# Altium footprint library connectors.PcbLib: 23 footprints (part 2 of 2)
Each footprint in its own frame and in the unit in brackets; x right, y up, seen from the top. Pads: shape width x height; smd on the part's side, far side on the other; paste and mask are expansions set on the pad; w line width, h text height; cw(c..) or ccw(c..) is an arc to the next point about the centre after c.
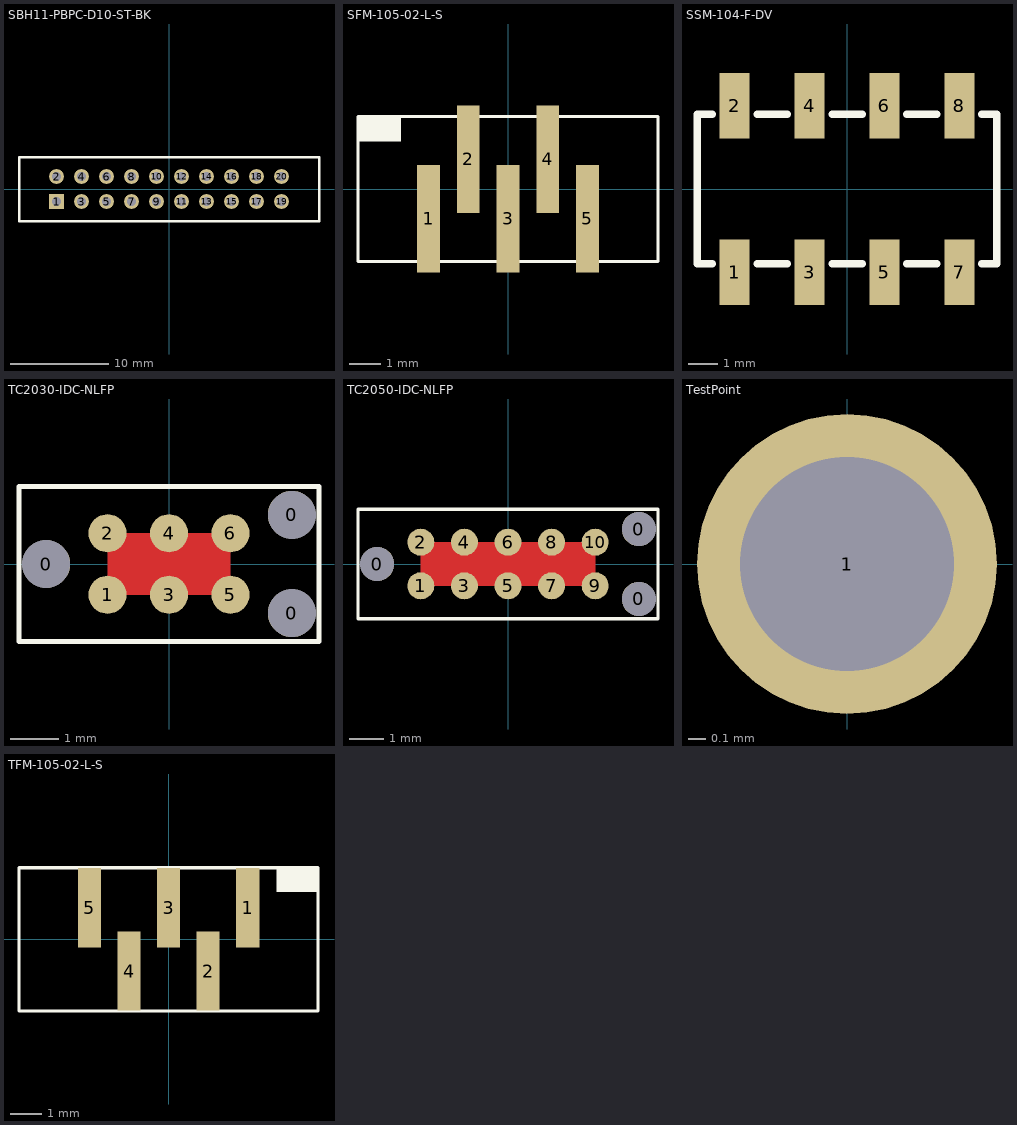
[diagram p1: the footprints below, top view; thin cyan lines are the x and y axes]

## SBH11-PBPC-D10-ST-BK [mm] "CONN HEADER 2.54MM 20POS"
pads (20):
  rect 1.5x1.5 hole 0.9: 1(-11.43,-1.27)
  round 1.5 hole 0.9: 2(-11.43,1.27) 3(-8.89,-1.27) 4(-8.89,1.27) 5(-6.35,-1.27) 6(-6.35,1.27) 7(-3.81,-1.27) 8(-3.81,1.27) 9(-1.27,-1.27) 10(-1.27,1.27) 11(1.27,-1.27) 12(1.27,1.27) 13(3.81,-1.27) 14(3.81,1.27) 15(6.35,-1.27) 16(6.35,1.27) 17(8.89,-1.27) 18(8.89,1.27) 19(11.43,-1.27) 20(11.43,1.27)
Top Overlay:
  lines w0.254: -15.24,-3.251 -15.24,3.251 15.24,3.251 15.24,-3.251 -15.24,-3.251
3D body: height 10.74, standoff 0, extent -15.24,-3.251 -14.859,3.251
3D body: height 10.74, standoff 0, extent 14.859,-3.251 15.24,3.251
3D body: height 10.74, standoff 0, extent 2.54,-3.251 15.24,-2.87
3D body: height 10.74, standoff 0, extent -15.24,-3.251 -2.54,-2.87
3D body: height 10.74, standoff 0, extent -15.24,2.87 15.24,3.251
3D body: height 10.11, standoff -3.2, extent 11.227,-1.473 11.633,-1.067
3D body: height 10.11, standoff -3.2, extent 11.227,1.067 11.633,1.473
3D body: height 10.11, standoff -3.2, extent 8.687,1.067 9.093,1.473
3D body: height 10.11, standoff -3.2, extent 8.687,-1.473 9.093,-1.067
3D body: height 10.11, standoff -3.2, extent 6.147,1.067 6.553,1.473
3D body: height 10.11, standoff -3.2, extent 6.147,-1.473 6.553,-1.067
3D body: height 2, standoff 0, extent -15.24,-3.251 15.24,3.251
3D body: height 10.11, standoff -3.2, extent 3.607,-1.473 4.013,-1.067
3D body: height 10.11, standoff -3.2, extent 3.607,1.067 4.013,1.473
3D body: height 10.11, standoff -3.2, extent 1.067,1.067 1.473,1.473
3D body: height 10.11, standoff -3.2, extent 1.067,-1.473 1.473,-1.067
3D body: height 10.11, standoff -3.2, extent -1.473,-1.473 -1.067,-1.067
3D body: height 10.11, standoff -3.2, extent -1.473,1.067 -1.067,1.473
3D body: height 10.11, standoff -3.2, extent -4.013,1.067 -3.607,1.473
3D body: height 10.11, standoff -3.2, extent -4.013,-1.473 -3.607,-1.067
3D body: height 10.11, standoff -3.2, extent -6.553,-1.473 -6.147,-1.067
3D body: height 10.11, standoff -3.2, extent -6.553,1.067 -6.147,1.473
3D body: height 10.11, standoff -3.2, extent -9.093,1.067 -8.687,1.473
3D body: height 10.11, standoff -3.2, extent -11.633,1.067 -11.227,1.473
3D body: height 10.11, standoff -3.2, extent -9.093,-1.473 -8.687,-1.067
3D body: height 10.11, standoff -3.2, extent -11.633,-1.473 -11.227,-1.067

## SFM-105-02-L-S [mm] "Samtec TFM, single row, 5 pos"
pads (5):
  rect 0.73x3.43 smd: 1(-2.54,-0.95) 2(-1.27,0.95) 3(0,-0.95) 4(1.27,0.95) 5(2.54,-0.95)
Top Overlay:
  rectangle: -4.8,1.524 -3.429,2.325
  lines w0.1: -4.8,-2.325 4.8,-2.325 4.8,2.325 -4.8,2.325 -4.8,-2.325
3D body: height 4.57, standoff 0.38, extent -3.375,0.9 -1.35,1.525
3D body: height 4.57, standoff 0.38, extent -3.375,-0.9 3.375,0.9
3D body: height 2.79, standoff 0, extent 3.375,-0.65 5.15,0.65
3D body: height 2.79, standoff 0, extent -5.15,-0.65 -3.375,0.65

## SSM-104-F-DV [mm] "Samtec 100 mil 2x4 female connector"
pads (8):
  rect 1.02x2.22 smd: 1(-3.81,-2.825) 2(-3.81,2.825) 3(-1.27,-2.825) 4(-1.27,2.825) 5(1.27,-2.825) 6(1.27,2.825) 7(3.81,-2.825) 8(3.81,2.825)
Top Overlay:
  lines w0.254: -4.572,-2.54 -5.08,-2.54 -5.08,2.54 -4.572,2.54 ; -3.048,-2.54 -2.032,-2.54 ; -3.048,2.54 -2.032,2.54 ; -0.508,-2.54 0.508,-2.54 ; -0.508,2.54 0.508,2.54 ; 2.032,-2.54 3.048,-2.54 ; 2.032,2.54 3.048,2.54 ; 4.572,-2.54 5.08,-2.54 5.08,2.54 4.572,2.54
3D body: height 7.37, standoff 0, extent -5.08,-2.54 5.08,2.54

## TC2030-IDC-NLFP [mil]
pads (9):
  round 39 hole 39 unplated: 0(-100,0) 0(100,-40) 0(100,40)
  round 31 smd paste-196.85: 1(-50,-25) 2(-50,25) 3(0,-25) 4(0,25) 5(50,-25) 6(50,25)
Top Layer:
  pour cut-out: -50,25 -50,-25 50,-25 50,25
Top Overlay:
  lines w3.94: -122.05,-62.99 -122.05,62.99 122.05,62.99 122.05,-62.99 -122.05,-62.99

## TC2050-IDC-NLFP [mil]
pads (13):
  round 39 hole 39 unplated: 0(-150,0) 0(150,-40) 0(150,40)
  round 31 smd paste-196.85: 1(-100,-25) 2(-100,25) 3(-50,-25) 4(-50,25) 5(0,-25) 6(0,25) 7(50,-25) 8(50,25) 9(100,-25) 10(100,25)
Top Layer:
  pour cut-out: -100,25 -100,-25 100,-25 100,25
Top Overlay:
  lines w3.94: 171.46,-62.99 -172.05,-62.99 -172.05,62.99 171.46,62.99 ; 172.05,-62.99 172.05,62.99

## TestPoint [mm]
pads (1):
  round 1.68 hole 1.2: 1(0,0)
3D body: height 4.57, standoff 3.3, extent -0.628,-0.632 0.635,0.632
3D body: height 3.05, standoff 0, extent -1.26,-1.267 1.27,1.268

## TFM-105-02-L-S [mm] "Samtec TFM, single row, 5 pos"
pads (5):
  rect 0.74x2.54 smd: 1(2.54,1.015) 2(1.27,-1.015) 3(0,1.015) 4(-1.27,-1.015) 5(-2.54,1.015)
Top Overlay:
  rectangle: 3.455,1.524 4.826,2.325
  lines w0.1: -4.8,-2.3 4.8,-2.3 4.8,2.3 -4.8,2.3 -4.8,-2.3
3D body: height 4, standoff 0, extent -4.8,-2.3 -3.1,2.3
3D body: height 4, standoff 0, extent 3.1,-2.3 4.8,2.3
3D body: height 1.44, standoff 0, extent -4.8,-1.5 4.8,2
3D body: height 3.47, standoff 1.44, extent -2.79,-0.25 -2.29,0.25
3D body: height 3.47, standoff 1.44, extent -1.52,-0.25 -1.02,0.25
3D body: height 3.47, standoff 1.44, extent 2.29,-0.25 2.79,0.25
3D body: height 3.47, standoff 1.44, extent 1.02,-0.25 1.52,0.25
3D body: height 3.47, standoff 1.44, extent -0.25,-0.25 0.25,0.25
3D body: height 5.59, standoff 0, extent 3.1,1.5 4.8,2
3D body: height 5.59, standoff 0, extent -4.8,1.5 0.7,2
3D body: height 5.59, standoff 1.44, extent -4.8,-2.3 4.8,-1.5
3D body: height 5.59, standoff 1.44, extent -4.8,2 4.8,2.3